# EAGLE library part M5M417800 (library IC)
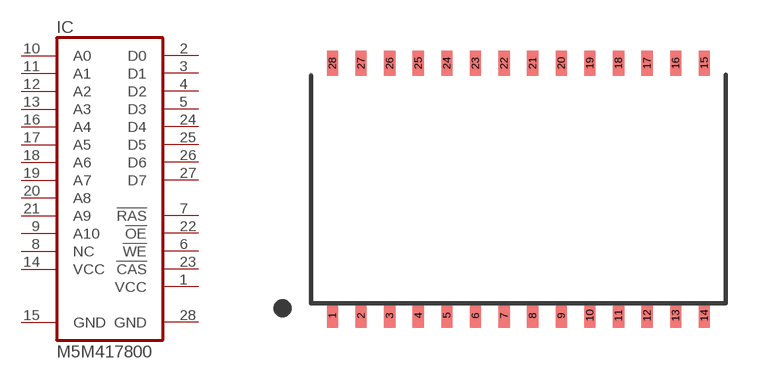
[diagram p1: symbol with the pads of TSOP(TYPE2)28-1.27; footprint TSOP(TYPE2)28-1.27]

Designator prefix IC

## M5M417800"  [TSOP(TYPE2)28-1.27]
1  VCC
2  D0
3  D1
4  D2
5  D3
6  !WE  in
7  !RAS  in
8  NC
9  A10  in
10  A0  in
11  A1  in
12  A2  in
13  A3  in
14  VCC
15  GND
16  A4  in
17  A5  in
18  A6  in
19  A7  in
20  A8  in
21  A9  in
22  !OE  in
23  !CAS  in
24  D4
25  D5
26  D6
27  D7
28  GND

## Footprint TSOP(TYPE2)28-1.27 (pad centres in mm)
smd 0.5 x 1.1: 1 -8.255,-5.6; 2 -6.985,-5.6; 3 -5.715,-5.6; 4 -4.445,-5.6; 5 -3.175,-5.6; 6 -1.905,-5.6; 7 -0.635,-5.6; 8 0.635,-5.6; 9 1.905,-5.6; 10 3.175,-5.6; 11 4.445,-5.6; 12 5.715,-5.6; 13 6.985,-5.6; 14 8.255,-5.6; 15 8.255,5.6; 16 6.985,5.6; 17 5.715,5.6; 18 4.445,5.6; 19 3.175,5.6; 20 1.905,5.6; 21 0.635,5.6; 22 -0.635,5.6; 23 -1.905,5.6; 24 -3.175,5.6; 25 -4.445,5.6; 26 -5.715,5.6; 27 -6.985,5.6; 28 -8.255,5.6